# Altium schematic symbol library CY489-04-01-01-00-00DL_单兵信息终端电路板原理图.SCHLIB: 29 symbols
Pins are listed as number, name and electrical type; pins without a type are passive.

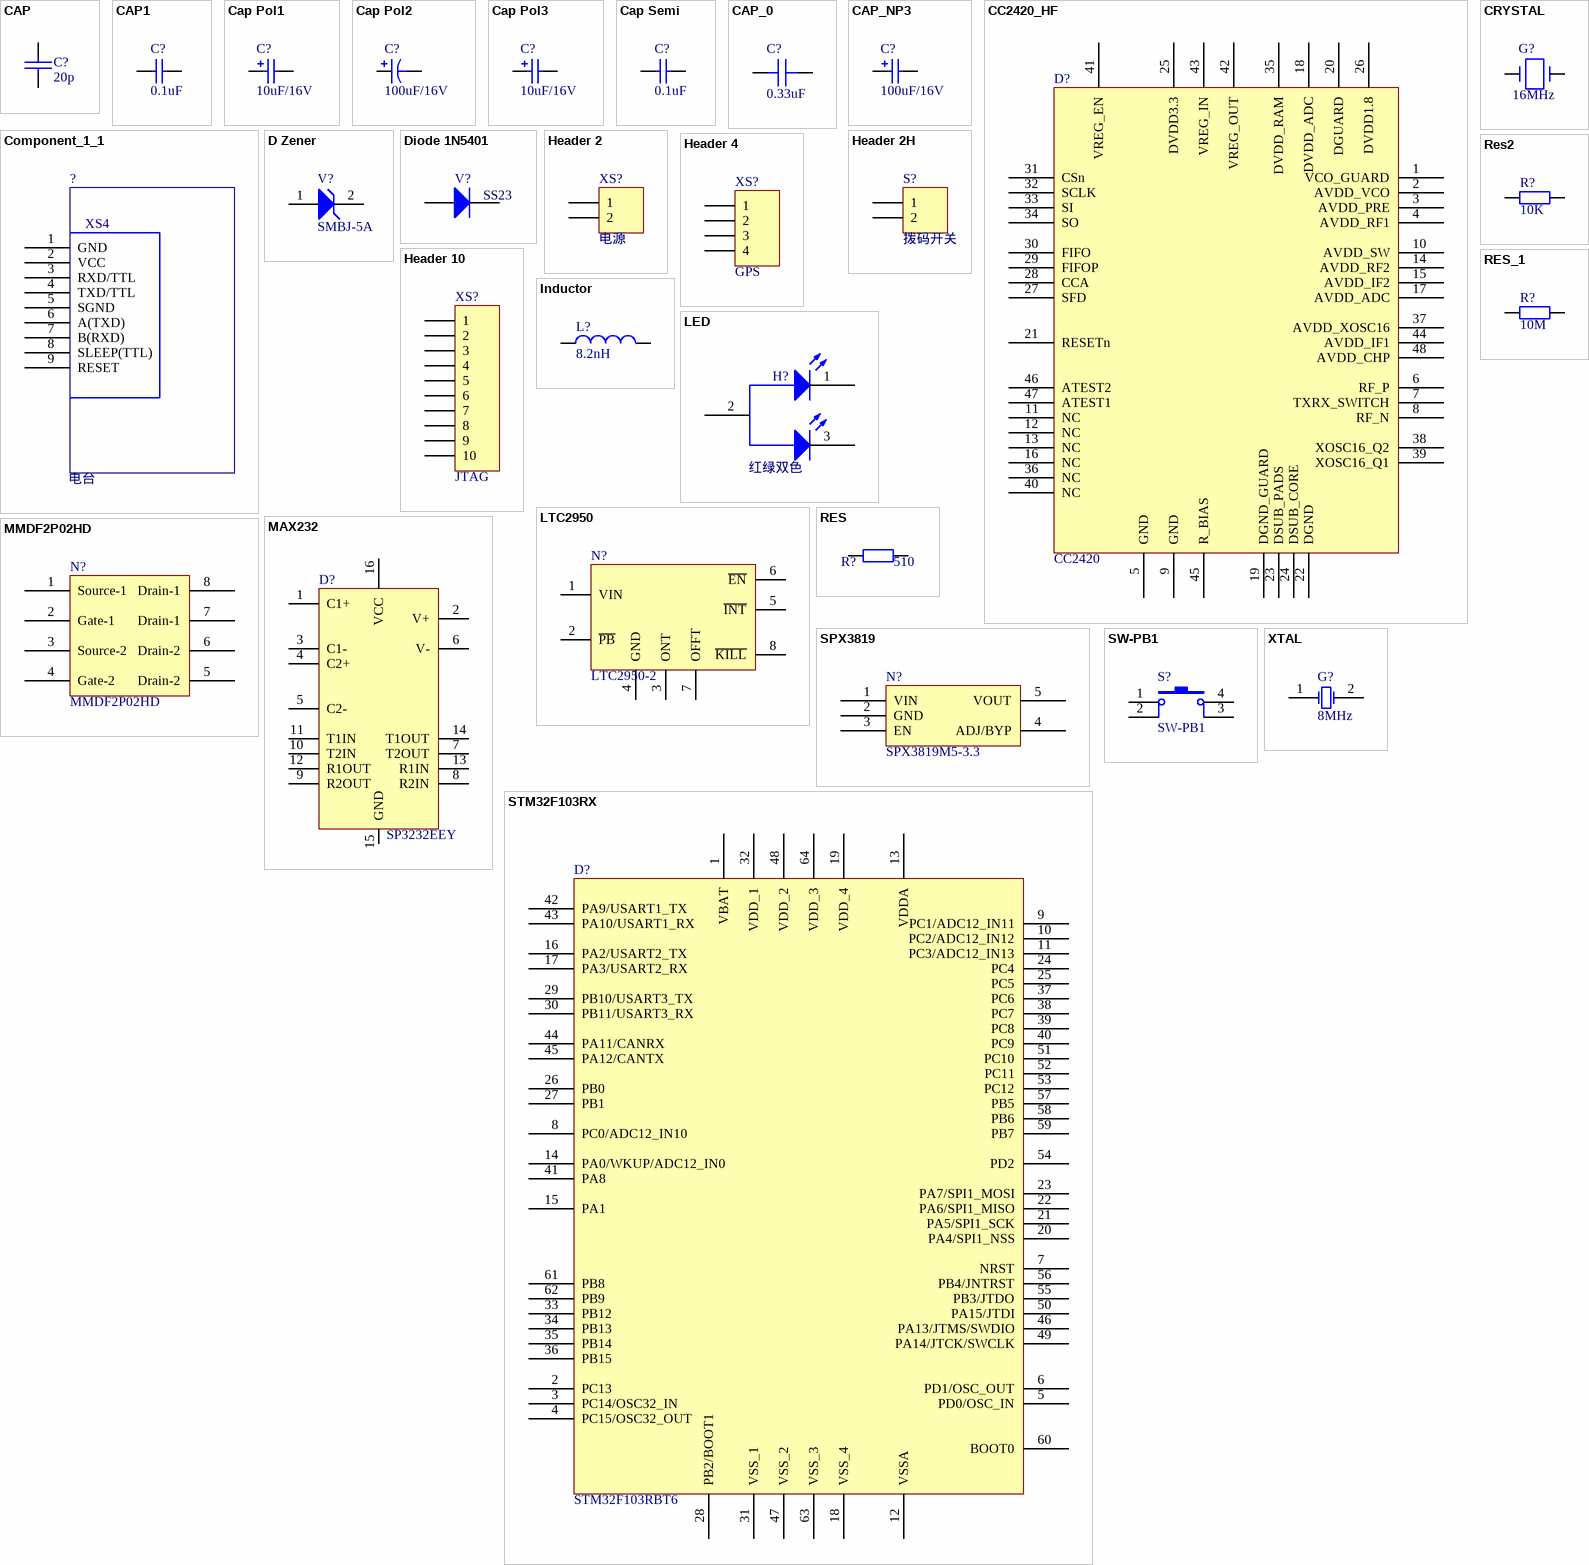
[diagram p0: symbols CAP to XTAL]

## CAP
designator C?, comment 20p
Capacitor
footprint CC2012-0805 (Chip Capacitor; Body 2.0 x 1.2 mm (LxW typ))
pins: 1, 2
2 alternate drawings of the same symbol

## CAP1
designator C?, comment 0.1uF
value: 0.1uF
footprint CC2012-0805 (Chip Capacitor; Body 2.0 x 1.2 mm (LxW typ))
pins: 1, 2
2 alternate drawings of the same symbol

## Cap Pol1
designator C?, comment 10uF/16V
Polarized Capacitor (Radial); Published: 8-Jun-2000; LatestRevisionDate: 17-Jul-2002; LatestRevisionNote: Re-released for DXP Platform.; Publisher: Altium Limited
footprint CC3825-1510 (Chip Capacitor; Body 3.81 x 2.54 mm (LxW typ))
pins: 1, 2
2 alternate drawings of the same symbol

## Cap Pol2
designator C?, comment 100uF/16V
Polarized Capacitor (Axial); Published: 8-Jun-2000; LatestRevisionDate: 17-Jul-2002; LatestRevisionNote: Re-released for DXP Platform.; Publisher: Altium Limited
footprint CC7238-2815
pins: 1, 2
2 alternate drawings of the same symbol

## Cap Pol3
designator C?, comment 10uF/16V
Polarized Capacitor (Surface Mount); Published: *; LatestRevisionDate: *; LatestRevisionNote: *; PackageReference: *; Publisher: *
footprint CC3225-1210
pins: 1, 2
2 alternate drawings of the same symbol

## Cap Semi
designator C?, comment 0.1uF
Capacitor (Semiconductor SIM Model); Published: 8-Jun-2000; LatestRevisionDate: 17-Jul-2002; LatestRevisionNote: Re-released for DXP Platform.; PackageReference: C1206; Publisher: Altium Limited
footprint CC2012-0805 (Chip Capacitor; Body 2.0 x 1.2 mm (LxW typ))
pins: 1, 2
2 alternate drawings of the same symbol

## CAP_0
designator C?, comment 0.33uF
Capacitor
footprint CC1608-0603
pins: 1, 2

## CAP_NP3
designator C?, comment 100uF/16V
Polarized Capacitor (Radial); Published: *; LatestRevisionDate: *; LatestRevisionNote: *; Publisher: *
footprint CC7238-2815
pins: 1, 2
2 alternate drawings of the same symbol

## CC2420_HF
designator D?, comment CC2420
footprint QFN7X7-48-新
pins: 1 VCO_GUARD, 2 AVDD_VCO, 3 AVDD_PRE, 4 AVDD_RF1, 5 GND, 6 RF_P, 7 TXRX_SWITCH, 8 RF_N, 9 GND, 10 AVDD_SW, 11 NC, 12 NC, 13 NC, 14 AVDD_RF2, 15 AVDD_IF2, 16 NC, 17 AVDD_ADC, 18 DVDD_ADC, 19 DGND_GUARD, 20 DGUARD, 21 RESETn, 22 DGND, 23 DSUB_PADS, 24 DSUB_CORE, 25 DVDD3.3, 26 DVDD1.8, 27 SFD, 28 CCA, 29 FIFOP, 30 FIFO, 31 CSn, 32 SCLK, 33 SI, 34 SO, 35 DVDD_RAM, 36 NC, 37 AVDD_XOSC16, 38 XOSC16_Q2, 39 XOSC16_Q1, 40 NC, 41 VREG_EN, 42 VREG_OUT, 43 VREG_IN, 44 AVDD_IF1, 45 R_BIAS, 46 ATEST2, 47 ATEST1, 48 AVDD_CHP
2 alternate drawings of the same symbol

## Component_1_1
designator ?, comment 电台
footprint KD384-1
pins: 1 GND, 2 VCC, 3 RXD/TTL, 4 TXD/TTL, 5 SGND, 6 A(TXD), 7 B(RXD), 8 SLEEP(TTL), 9 RESET
2 alternate drawings of the same symbol
text: XS4

## CRYSTAL
designator G?, comment 16MHz
footprint HC49/4H_SMX
pins: 1, 2

## D Zener
designator V?, comment SMBJ-5A
Zener Diode; Published: 8-Jun-2000; LatestRevisionDate: 17-Jul-2002; LatestRevisionNote: Re-released for DXP Platform.; Publisher: Altium Limited
footprint CD4532-1812
pins: 1 A, 2 K
2 alternate drawings of the same symbol

## Diode 1N5401
designator V?, comment SS23
3 Amp General Purpose Rectifier; Published: *; LatestRevisionDate: *; LatestRevisionNote: *; DatasheetDocument: *; PackageDocument: *; PackageReference: *; Publisher: *; ComponentLink1Description: *; ComponentLink1URL: *; value: *
footprint ss23
pins: 1 A, 2 K
2 alternate drawings of the same symbol

## Header 2
designator XS?, comment 电源
Header, 2-Pin; LatestRevisionDate: 17-Jul-2002; LatestRevisionNote: Re-released for DXP Platform.; Publisher: Altium Limited
footprint SC25-02PWS
pins: 1, 2
2 alternate drawings of the same symbol

## Header 2H
designator S?, comment 拨码开关
Header, 2-Pin, Right Angle; LatestRevisionDate: 17-Jul-2002; LatestRevisionNote: Re-released for DXP Platform.; Publisher: Altium Limited
footprint boma
pins: 1, 2
2 alternate drawings of the same symbol

## Header 4
designator XS?, comment GPS
Header, 4-Pin; Revision: 17-Jul-2002: Re-released for DXP Platform.; Publisher: Altium Limited
footprint SC25-04PWS
pins: 1, 2, 3, 4
2 alternate drawings of the same symbol

## Header 10
designator XS?, comment JTAG
Header, 10-Pin; LatestRevisionDate: 17-Jul-2002; LatestRevisionNote: Re-released for DXP Platform.; Publisher: Altium Limited
footprint FFC/SM1.0-2H10
pins: 1, 2, 3, 4, 5, 6, 7, 8, 9, 10
2 alternate drawings of the same symbol

## Inductor
designator L?, comment 8.2nH
Inductor; Code_IEC: 1005; Published: 8-Jun-2000; LatestRevisionDate: 17-Jul-2002; LatestRevisionNote: Re-released for DXP Platform.; PackageReference: 0402-A; Publisher: Altium Limited; Code_JEITA: 0402
footprint INDC1608-0603
pins: 1, 2
2 alternate drawings of the same symbol

## LED
designator H?, comment 红绿双色
footprint HDR1X3
pins: 1 15, 2 15, 3 15
2 alternate drawings of the same symbol

## LTC2950
designator N?, comment LTC2950-2
footprint LTC2950ITS8-2
pins: 1 VIN, 2 ~{PB}, 3 ONT, 4 GND, 5 ~{INT}, 6 ~{EN}, 7 OFFT, 8 ~{KILL}

## MAX232
designator D?, comment SP3232EEY
footprint TSSOP16
pins: 1 C1+, 2 V+, 3 C1-, 4 C2+, 5 C2-, 6 V-, 7 T2OUT, 8 R2IN, 9 R2OUT, 10 T2IN, 11 T1IN, 12 R1OUT, 13 R1IN, 14 T1OUT, 15 GND, 16 VCC

## MMDF2P02HD
designator N?
footprint MMDF2P02HD
pins: 1 Source-1 (power), 2 Gate-1, 3 Source-2, 4 Gate-2, 5 Drain-2, 6 Drain-2, 7 Drain-1 (power), 8 Drain-1 (power)
2 alternate drawings of the same symbol

## RES
designator R?, comment 510
RES; value: 1K
footprint 0805
pins: 1, 2
2 alternate drawings of the same symbol

## Res2
designator R?, comment 10K
Resistor; Published: 8-Jun-2000; LatestRevisionDate: 17-Jul-2002; LatestRevisionNote: Re-released for DXP Platform.; Publisher: Altium Limited
footprint 0805
pins: 1, 2
2 alternate drawings of the same symbol

## RES_1
designator R?, comment 10M
Resistor; value: 100
footprint 0805
pins: 1, 2
2 alternate drawings of the same symbol

## SPX3819
designator N?, comment SPX3819M5-3.3
footprint SOT23-5
pins: 1 VIN, 2 GND, 3 EN, 4 ADJ/BYP, 5 VOUT
2 alternate drawings of the same symbol

## STM32F103RX
designator D?, comment STM32F103RBT6
footprint F-QFP10x10-G64/N
pins: 1 VBAT, 2 PC13, 3 PC14/OSC32_IN, 4 PC15/OSC32_OUT, 5 PD0/OSC_IN, 6 PD1/OSC_OUT, 7 NRST, 8 PC0/ADC12_IN10, 9 PC1/ADC12_IN11, 10 PC2/ADC12_IN12, 11 PC3/ADC12_IN13, 12 VSSA, 13 VDDA, 14 PA0/WKUP/ADC12_IN0, 15 PA1, 16 PA2/USART2_TX, 17 PA3/USART2_RX, 18 VSS_4, 19 VDD_4, 20 PA4/SPI1_NSS, 21 PA5/SPI1_SCK, 22 PA6/SPI1_MISO, 23 PA7/SPI1_MOSI, 24 PC4, 25 PC5, 26 PB0, 27 PB1, 28 PB2/BOOT1, 29 PB10/USART3_TX, 30 PB11/USART3_RX, 31 VSS_1, 32 VDD_1, 33 PB12, 34 PB13, 35 PB14, 36 PB15, 37 PC6, 38 PC7, 39 PC8, 40 PC9, 41 PA8, 42 PA9/USART1_TX, 43 PA10/USART1_RX, 44 PA11/CANRX, 45 PA12/CANTX, 46 PA13/JTMS/SWDIO, 47 VSS_2, 48 VDD_2, 49 PA14/JTCK/SWCLK, 50 PA15/JTDI, 51 PC10, 52 PC11, 53 PC12, 54 PD2, 55 PB3/JTDO, 56 PB4/JNTRST, 57 PB5, 58 PB6, 59 PB7, 60 BOOT0, 61 PB8, 62 PB9, 63 VSS_3, 64 VDD_3
2 alternate drawings of the same symbol

## SW-PB1
designator S?
footprint B3FS-1052
pins: 1, 2, 3, 4
2 alternate drawings of the same symbol

## XTAL
designator G?, comment 8MHz
Crystal Oscillator; Published: 8-Jun-2000; LatestRevisionDate: 17-Jul-2002; LatestRevisionNote: Re-released for DXP Platform.; Publisher: Altium Limited
footprint HC49/4H_SMX
pins: 1 OSC1, 2 OSC2
2 alternate drawings of the same symbol